# Altium schematic symbol library 132134.SchLib: 2 symbols
Pins are listed as number, name and electrical type; pins without a type are passive.

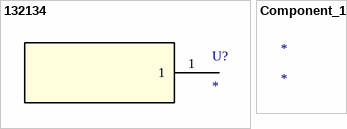
[diagram p0: symbols 132134 to Component_1]

## 132134
designator U?
No Description Available; Mfr_Name: Amphenol ICC; RefDes: RefDes; Type: Type
footprint 132134_AMP
pins: 1

## Component_1
designator *